# Altium footprint library PCB_Altium_Library_Manuel.PcbLib: 63 footprints (part 2 of 4)
Each footprint in its own frame and in the unit in brackets; x right, y up, seen from the top. Pads: shape width x height; smd on the part's side, far side on the other; paste and mask are expansions set on the pad; w line width, h text height; cw(c..) or ccw(c..) is an arc to the next point about the centre after c.
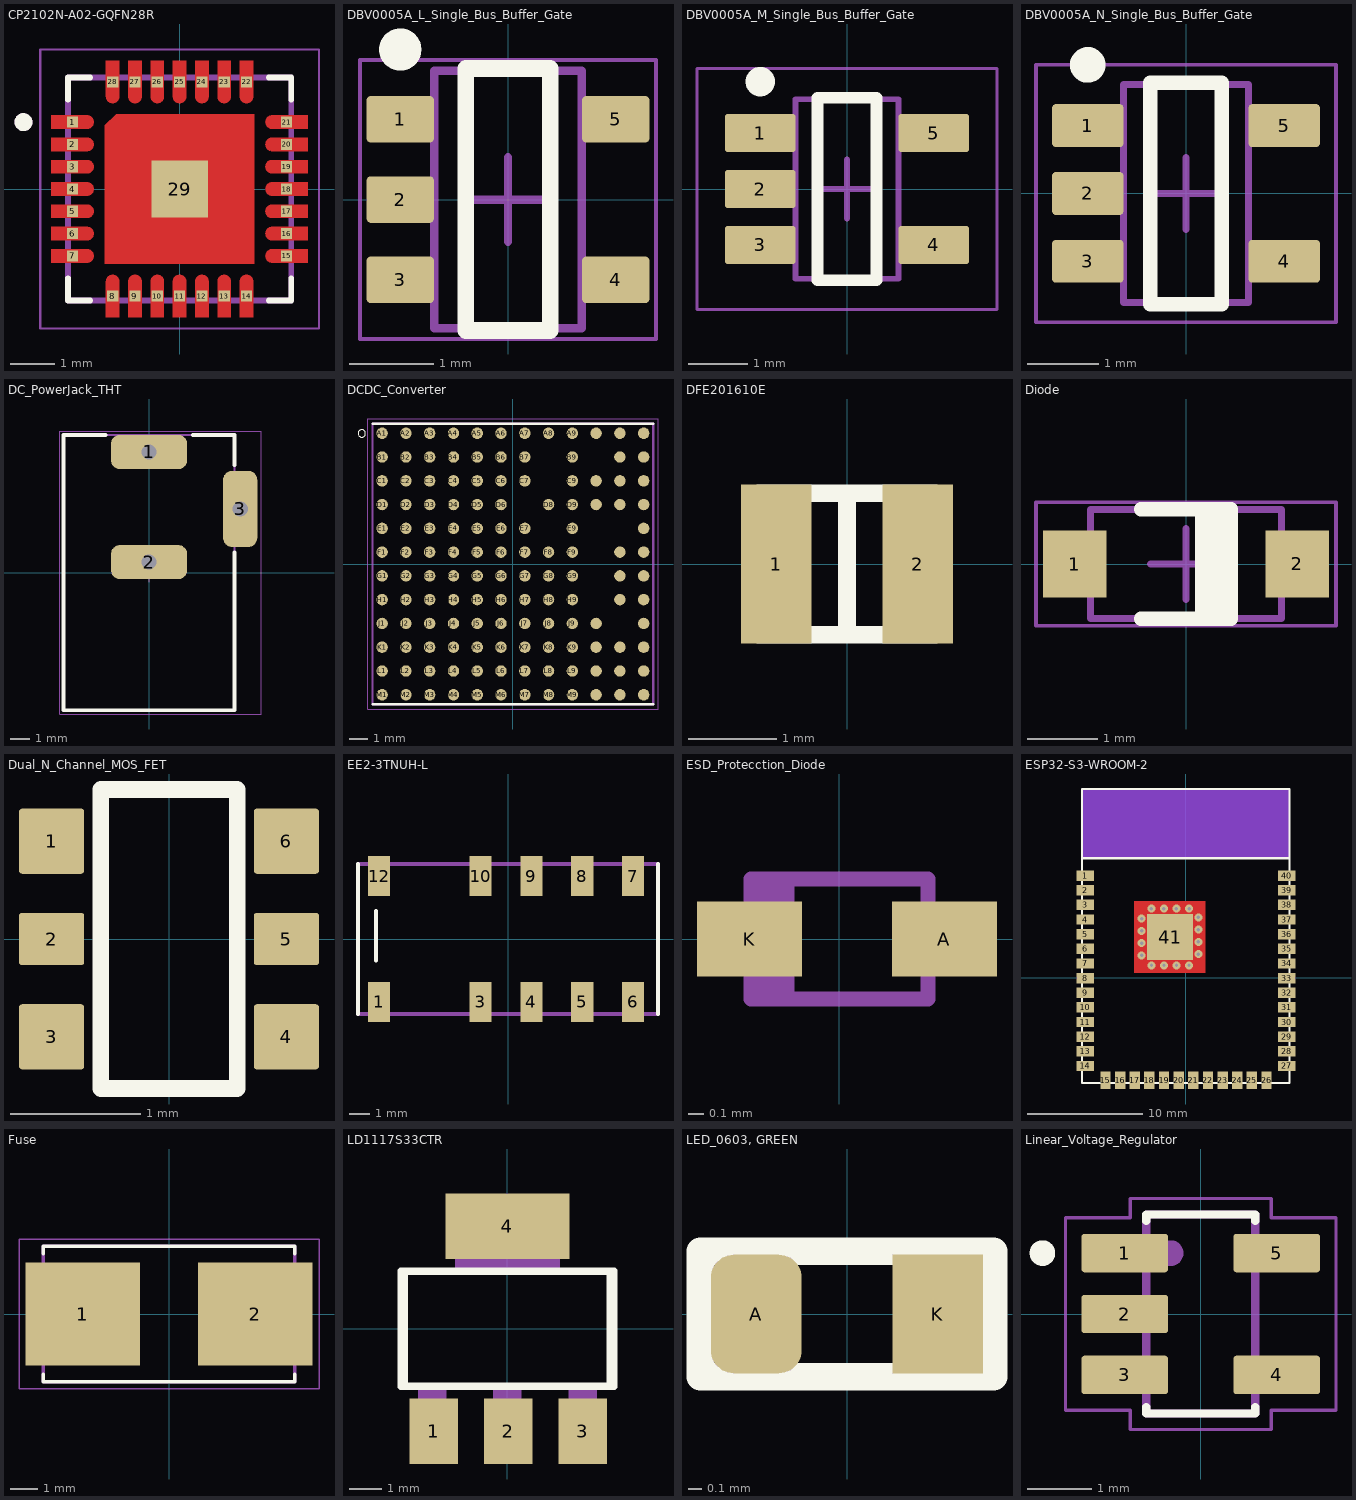
[diagram p1: the footprints below, top view; thin cyan lines are the x and y axes]

## CP2102N-A02-GQFN28R [mm] "USB to UART bridge."
pads (29):
  rect 0.25x0.25 smd paste-1 mask+0: 1(-2.4,1.5) 2(-2.4,1) 3(-2.4,0.5) 4(-2.4,0) 5(-2.4,-0.5) 6(-2.4,-1) 7(-2.4,-1.5) 8(-1.5,-2.4) 9(-1,-2.4) 10(-0.5,-2.4) 11(0,-2.4) 12(0.5,-2.4) 13(1,-2.4) 14(1.5,-2.4) 15(2.4,-1.5) 16(2.4,-1) 17(2.4,-0.5) 18(2.4,0) 19(2.4,0.5) 20(2.4,1) 21(2.4,1.5) 22(1.5,2.4) 23(1,2.4) 24(0.5,2.4) 25(0,2.4) 26(-0.5,2.4) 27(-1,2.4) 28(-1.5,2.4)
  rect 1.27x1.27 smd paste+0.424 mask+0: 29(0,0)
Top Layer:
  drawing of 29 lines, arcs and shapes, not listed
Top Overlay:
  circle w0.2: c-3.5,1.5 r0.1
  lines w0.127: -2.5,-2 -2.5,-2.5 -2,-2.5 ; -2.5,2 -2.5,2.5 -2,2.5 ; 2,-2.5 2.5,-2.5 2.5,-2 ; 2,2.5 2.5,2.5 2.5,2
Top Paste:
  drawing of 28 lines, arcs and shapes, not listed
Top Solder:
  drawing of 29 lines, arcs and shapes, not listed
Mechanical 13:
  circle w0.2: c-3.5,1.5 r0.1
  lines w0.127: -2.5,-2.5 -2.5,2.5 2.5,2.5 2.5,-2.5 -2.5,-2.5
Mechanical 15:
  lines w0.05: -3.125,-3.125 -3.125,3.125 3.125,3.125 3.125,-3.125 -3.125,-3.125
3D body "step_temp.STEP": height 0.8, standoff 0, extent -2.5,-2.5 2.5,2.5
3D body "CP2102N-A02-GQFN28R--3DModel-STEP-510211.STEP": height 0.8, standoff 0, extent -2.5,-2.5 2.5,2.5

## DBV0005A_L_Single_Bus_Buffer_Gate [mm] "SOT23, 5-Leads, Body 3.05x1.75mm, Pitch 0.95mm, IPC High Density."
pads (5):
  rrect18% 0.8x0.55 smd: 1(-1.275,0.95) 2(-1.275,0) 3(-1.275,-0.95) 4(1.275,-0.95) 5(1.275,0.95)
Top Overlay:
  circle w0.25: c-1.275,1.775 r0.125
  lines w0.2: -0.5,-1.55 0.5,-1.55 0.5,1.55 -0.5,1.55 -0.5,-1.55
Mechanical 1:
  text ".Designator" at -0.635,-0.254 h0.4
Mechanical 13:
  lines w0.1: -0.875,-1.525 -0.875,1.525 0.875,1.525 0.875,-1.525 -0.875,-1.525
Mechanical 15:
  lines w0.05: -1.75,-1.65 -1.75,1.65 1.75,1.65 1.75,-1.65 -1.75,-1.65
  lines w0.1: -0.5,0 0.5,0 ; 0,-0.5 0,0.5
3D body "DBV0005AaksMF05A.stp": height 1.08, standoff -0.01, extent -1.422,-1.461 1.422,1.46

## DBV0005A_M_Single_Bus_Buffer_Gate [mm] "SOT23, 5-Leads, Body 3.05x1.75mm, Pitch 0.95mm, IPC Low Density."
pads (5):
  rrect15% 1.2x0.65 smd: 1(-1.475,0.95) 2(-1.475,0) 3(-1.475,-0.95) 4(1.475,-0.95) 5(1.475,0.95)
Top Overlay:
  circle w0.25: c-1.475,1.825 r0.125
  lines w0.2: -0.5,-1.55 -0.5,1.55 0.5,1.55 0.5,-1.55 -0.5,-1.55
Mechanical 1:
  text ".Designator" at -0.635,-0.127 h0.4
Mechanical 13:
  lines w0.1: -0.875,-1.525 0.875,-1.525 0.875,1.525 -0.875,1.525 -0.875,-1.525
Mechanical 15:
  lines w0.05: -2.55,-2.05 2.55,-2.05 2.55,2.05 -2.55,2.05 -2.55,-2.05
  lines w0.1: -0.5,0 0.5,0 ; 0,-0.5 0,0.5
3D body "DBV0005AaksMF05A.stp": height 1.08, standoff -0.01, extent -1.422,-1.461 1.422,1.46

## DBV0005A_N_Single_Bus_Buffer_Gate [mm] "SOT23, 5-Leads, Body 3.05x1.75mm, Pitch 0.95mm, IPC Medium Density."
pads (5):
  rrect17% 1x0.6 smd: 1(-1.375,0.95) 2(-1.375,0) 3(-1.375,-0.95) 4(1.375,-0.95) 5(1.375,0.95)
Top Overlay:
  circle w0.25: c-1.375,1.8 r0.125
  lines w0.2: -0.5,-1.55 -0.5,1.55 0.5,1.55 0.5,-1.55 -0.5,-1.55
Mechanical 1:
  text ".Designator" at -0.635,-0.254 h0.4
Mechanical 13:
  lines w0.1: -0.875,-1.525 0.875,-1.525 0.875,1.525 -0.875,1.525 -0.875,-1.525
Mechanical 15:
  lines w0.05: -2.1,-1.8 2.1,-1.8 2.1,1.8 -2.1,1.8 -2.1,-1.8
  lines w0.1: -0.5,0 0.5,0 ; 0,-0.5 0,0.5
3D body "DBV0005AaksMF05A.stp": height 1.08, standoff -0.01, extent -1.422,-1.461 1.422,1.46

## DC_PowerJack_THT [mm] "694106301002, DCPowerJack_THT_R/A_Plastic_CenterPin_ Ã˜2.0."
pads (3):
  rrect50% 4x1.8 hole 0.8 square: 1(0,6.35) 2(0,0.55)
  rrect50% 1.8x4 hole 0.8 square: 3(4.8,3.35)
Top Overlay:
  lines w0.2: -2.3,7.25 -4.5,7.25 -4.5,-7.25 4.5,-7.25 4.5,1.05 ; 2.3,7.25 4.5,7.25 4.5,5.65
Top 3D Body:
  lines w0.1: -4.5,-7.25 4.5,-7.25 4.5,7.25 -4.5,7.25 -4.5,-7.25
Top Component Outline:
  lines w0.1: -4.5,-7.25 -4.5,7.25 4.5,7.25 4.5,-7.25 -4.5,-7.25
  text ".Designator" at -7.498,-0.5 h1.5
Top Designator:
  lines w0.05: -0.5,0 0.5,0 ; 0,-0.5 0,0.5 ; -4.7,-7.45 -4.7,7.45 5.9,7.45 5.9,-7.45 -4.7,-7.45
3D body "694106301002.stp": height 10.75, standoff -3.75, extent -4.5,-7.25 5,7.25

## DCDC_Converter [mm] "LTM4627EY#PBF, BGA133C127P12X12_1500X1500X512N, Module DC-DC 1-OUT 0.6V to 5V 15A Automotive 133-Pin BGA Tray."
pads (133):
  round 0.61 smd: A1(-6.985,6.985) A2(-5.715,6.985) A3(-4.445,6.985) A4(-3.175,6.985) A5(-1.905,6.985) A6(-0.635,6.985) A7(0.635,6.985) A8(1.905,6.985) A9(3.175,6.985) A10(4.445,6.985) A11(5.715,6.985) A12(6.985,6.985) B1(-6.985,5.715) B2(-5.715,5.715) B3(-4.445,5.715) B4(-3.175,5.715) B5(-1.905,5.715) B6(-0.635,5.715) B7(0.635,5.715) B9(3.175,5.715) B11(5.715,5.715) B12(6.985,5.715) C1(-6.985,4.445) C2(-5.715,4.445) C3(-4.445,4.445) C4(-3.175,4.445) C5(-1.905,4.445) C6(-0.635,4.445) C7(0.635,4.445) C9(3.175,4.445) C10(4.445,4.445) C11(5.715,4.445) C12(6.985,4.445) D1(-6.985,3.175) D2(-5.715,3.175) D3(-4.445,3.175) D4(-3.175,3.175) D5(-1.905,3.175) D6(-0.635,3.175) D8(1.905,3.175) D9(3.175,3.175) D10(4.445,3.175) D11(5.715,3.175) D12(6.985,3.175) E1(-6.985,1.905) E2(-5.715,1.905) E3(-4.445,1.905) E4(-3.175,1.905) E5(-1.905,1.905) E6(-0.635,1.905) E7(0.635,1.905) E9(3.175,1.905) E12(6.985,1.905) F1(-6.985,0.635) F2(-5.715,0.635) F3(-4.445,0.635) F4(-3.175,0.635) F5(-1.905,0.635) F6(-0.635,0.635) F7(0.635,0.635) F8(1.905,0.635) F9(3.175,0.635) F11(5.715,0.635) F12(6.985,0.635) G1(-6.985,-0.635) G2(-5.715,-0.635) G3(-4.445,-0.635) G4(-3.175,-0.635) G5(-1.905,-0.635) G6(-0.635,-0.635) G7(0.635,-0.635) G8(1.905,-0.635) G9(3.175,-0.635) G11(5.715,-0.635) G12(6.985,-0.635) H1(-6.985,-1.905) H2(-5.715,-1.905) H3(-4.445,-1.905) H4(-3.175,-1.905) H5(-1.905,-1.905) H6(-0.635,-1.905) H7(0.635,-1.905) H8(1.905,-1.905) H9(3.175,-1.905) H11(5.715,-1.905) H12(6.985,-1.905) J1(-6.985,-3.175) J2(-5.715,-3.175) J3(-4.445,-3.175) J4(-3.175,-3.175) J5(-1.905,-3.175) J6(-0.635,-3.175) J7(0.635,-3.175) J8(1.905,-3.175) J9(3.175,-3.175) J10(4.445,-3.175) J12(6.985,-3.175) K1(-6.985,-4.445) K2(-5.715,-4.445) K3(-4.445,-4.445) K4(-3.175,-4.445) K5(-1.905,-4.445) K6(-0.635,-4.445) K7(0.635,-4.445) K8(1.905,-4.445) K9(3.175,-4.445) K10(4.445,-4.445) K11(5.715,-4.445) K12(6.985,-4.445) L1(-6.985,-5.715) L2(-5.715,-5.715) L3(-4.445,-5.715) L4(-3.175,-5.715) L5(-1.905,-5.715) L6(-0.635,-5.715) L7(0.635,-5.715) L8(1.905,-5.715) L9(3.175,-5.715) L10(4.445,-5.715) L11(5.715,-5.715) L12(6.985,-5.715) M1(-6.985,-6.985) M2(-5.715,-6.985) M3(-4.445,-6.985) M4(-3.175,-6.985) M5(-1.905,-6.985) M6(-0.635,-6.985) M7(0.635,-6.985) M8(1.905,-6.985) M9(3.175,-6.985) M10(4.445,-6.985) M11(5.715,-6.985) M12(6.985,-6.985)
Top Overlay:
  circle w0: c-8.075,6.975 r0.2
  lines w0.127: -7.5,-7.5 7.5,-7.5 ; -7.5,7.5 7.5,7.5
Mechanical 13:
  lines w0.127: -7.5,-7.5 -7.5,7.5 7.5,7.5 7.5,-7.5 -7.5,-7.5
Mechanical 15:
  lines w0.05: -7.75,-7.75 -7.75,7.75 7.75,7.75 7.75,-7.75 -7.75,-7.75
3D body "LTM4627EY#PBF.STEP": height 5.12, standoff 0, extent -7.5,-7.5 7.5,7.5

## DFE201610E [mm] "DFE201610E-1R0M=P2 Series Inductor 1.0uH +/-20% 0806"
pads (2):
  rect 0.8x1.8 smd: 1(-0.8,0) 2(0.8,0)
Top Overlay:
  lines w0.2: 0,-0.8 0,0.8 ; -1,-0.8 1,-0.8 1,0.8 -1,0.8 -1,-0.8
3D body "DFE201610E-1R0M=P2.stp": height 1, standoff 0, extent -1,-0.8 1,0.8

## Diode [mm] "1N4148W-7-F, Fast Switching Diode, 100 V, 0.15 A, -65 to 150 degC, 2-Pin?SOD123, RoHS, Tape and Reel."
pads (2):
  rect 0.9x0.95 smd: 1(-1.575,0) 2(1.575,0)
Top Overlay:
  rectangle: 0.127,-0.825 0.635,0.762
  lines w0.2: -0.635,-0.775 0.635,-0.775 0.635,0.775 -0.635,0.775
Mechanical 13:
  lines w0.1: -1.35,-0.775 1.35,-0.775 1.35,0.775 -1.35,0.775 -1.35,-0.775
Mechanical 15:
  lines w0.05: -2.125,-0.875 2.125,-0.875 2.125,0.875 -2.125,0.875 -2.125,-0.875
  lines w0.1: -0.5,0 0.5,0 ; 0,-0.5 0,0.5
3D body: height 1.45, standoff 0, extent -1.35,-0.775 1.35,0.775

## Dual_N_Channel_MOS_FET [mm] "BSS138PS, Mosfet Array 60V 300mA (Ta) 350mW (Ta) Surface Mount SOT-23-6."
pads (6):
  rrect10% 0.5x0.5 smd: 1(-0.9,0.75) 3(-0.9,-0.75) 4(0.9,-0.75) 6(0.9,0.75)
  rrect10% 0.5x0.4 smd: 2(-0.9,0) 5(0.9,0)
Top Overlay:
  lines w0.127: -0.523,-1.146 -0.523,1.146 0.523,1.146 0.523,-1.146 -0.523,-1.146
3D body "BSS138PS.STEP": height 1.1, standoff 0, extent -1.05,-1 1.05,1

## EE2-3TNUH-L [mm] "Low Signal Latching Relay 3.0 V SMD, 2 Coils"
pads (10):
  rect 1.11x2 smd: 1(-6.45,-3.145) 3(-1.37,-3.145) 4(1.17,-3.145) 5(3.71,-3.145) 6(6.25,-3.145) 7(6.25,3.145) 8(3.71,3.145) 9(1.17,3.145) 10(-1.37,3.145) 12(-6.45,3.145)
Top Overlay:
  lines w0.2: -7.5,-3.75 -7.5,3.75 ; -6.611,-1.083 -6.604,1.397 ; 7.5,-3.75 7.5,3.75
Mechanical 13:
  lines w0.2: -7.5,-3.75 7.5,-3.75 7.5,3.75 -7.5,3.75 -7.5,-3.75
3D body "EE2-3TNUH-L--3DModel-STEP-56544.STEP": height 10, standoff 0, extent -7.5,-3.75 7.5,3.75

## ESD_Protecction_Diode [mm] "ESD5B5.0ST1G"
pads (2):
  rect 0.7x0.5 smd: A(0.7,0) K(-0.6,0)
Mechanical 13:
  region: -0.3,-0.4 -0.59,-0.4 -0.59,0.4 -0.3,0.4
  region: 0.75,-0.17 0.54,-0.17 0.54,0.17 0.75,0.17
  region: -0.54,-0.17 -0.75,-0.17 -0.75,0.17 -0.54,0.17
  lines w0.1: -0.59,-0.4 -0.59,0.4 0.59,0.4 0.59,-0.4 -0.59,-0.4
3D body "step_temp.STEP": height 0.7, standoff 0, extent -0.8,-0.4 0.8,0.4

## ESP32-S3-WROOM-2 [mm] "ESP32-S3-WROOM-2-N32R16V"
pads (41):
  rect 1.5x0.9 smd: 1(-8.75,8.88) 2(-8.75,7.61) 3(-8.75,6.34) 4(-8.75,5.07) 5(-8.75,3.8) 6(-8.75,2.53) 7(-8.75,1.26) 8(-8.75,-0.01) 9(-8.75,-1.28) 10(-8.75,-2.55) 11(-8.75,-3.82) 12(-8.75,-5.09) 13(-8.75,-6.36) 14(-8.75,-7.63) 27(8.75,-7.63) 28(8.75,-6.36) 29(8.75,-5.09) 30(8.75,-3.82) 31(8.75,-2.55) 32(8.75,-1.28) 33(8.75,-0.01) 34(8.75,1.26) 35(8.75,2.53) 36(8.75,3.8) 37(8.75,5.07) 38(8.75,6.34) 39(8.75,7.61) 40(8.75,8.88)
  rect 0.9x1.5 smd: 15(-6.985,-8.88) 16(-5.715,-8.88) 17(-4.445,-8.88) 18(-3.175,-8.88) 19(-1.905,-8.88) 20(-0.635,-8.88) 21(0.635,-8.88) 22(1.905,-8.88) 23(3.175,-8.88) 24(4.445,-8.88) 25(5.715,-8.88) 26(6.985,-8.88)
  rect 4x4 smd paste-2539.97: 41(-1.383,3.55)
via -3.007,6.015 diameter 0.7 hole 0.3
via 1.077,5.252 diameter 0.7 hole 0.3
via 1.077,4.19 diameter 0.7 hole 0.3
via 1.077,3.128 diameter 0.7 hole 0.3
via 1.077,2.066 diameter 0.7 hole 0.3
via 0.261,1.09 diameter 0.7 hole 0.3
via -0.823,1.09 diameter 0.7 hole 0.3
via -1.907,1.09 diameter 0.7 hole 0.3
via -2.991,1.09 diameter 0.7 hole 0.3
via -3.848,1.965 diameter 0.7 hole 0.3
via -3.848,3.027 diameter 0.7 hole 0.3
via -3.848,4.089 diameter 0.7 hole 0.3
via -3.848,5.151 diameter 0.7 hole 0.3
via -1.923,6.015 diameter 0.7 hole 0.3
via 0.277,6.015 diameter 0.7 hole 0.3
via -0.839,6.015 diameter 0.7 hole 0.3
Top Layer:
  region: -4.477,6.639 1.68,6.639 1.68,0.46 -4.477,0.46
Top Layer keep-out:
  rectangle: -9.023,10.39 8.977,16.39
Bottom Layer keep-out:
  rectangle: -9.023,10.39 8.977,16.39
Top Overlay:
  lines w0.2: 8.977,10.39 -9.023,10.39 ; -9.023,10.39 -9.023,16.39 8.977,16.39 8.977,-9.11 -9.023,-9.11 -9.023,10.39
Top Paste:
  rectangle: -0.498,3.09 0.502,4.09
  rectangle: -0.498,1.665 0.502,2.665
  rectangle: -1.886,1.665 -0.885,2.665
  rectangle: -3.273,1.665 -2.273,2.665
  rectangle: -3.273,3.09 -2.273,4.09
  rectangle: -1.885,3.09 -0.885,4.09
  rectangle: -0.498,4.44 0.502,5.44
  rectangle: -1.87,4.44 -0.87,5.44
  rectangle: -3.257,4.44 -2.257,5.44
3D body "ESP32-S3-WROOM-2-N32R16V.stp": height 3.25, standoff 0, extent -9,-9.13 9,16.37

## Fuse [mil] "0154010.DR, FUSE BRD MNT 10A 125VAC/VDC SMD"
pads (2):
  rect 167x150 smd: 1(-125.5,0) 2(125.5,0)
Top Overlay:
  lines w5: -183.66,-87.99 -183.66,-99.02 183.66,-99.02 183.66,-87.99 ; -183.66,87.99 -183.66,99.02 183.66,99.02 183.66,87.99
Mechanical 13:
  lines w5: -183.66,-99.02 -183.66,99.02 183.66,99.02 183.66,-99.02 -183.66,-99.02
Mechanical 15:
  lines w1.97: -218.84,-108.86 218.84,-108.86 218.84,108.86 -218.84,108.86 -218.84,-108.86
3D body "step_temp.STEP": height 150, standoff 0, extent -191.54,-99.02 191.54,99.02

## LD1117S33CTR [mil] "LDO, 3.3V and 800mA."
pads (4):
  rect 59x79 smd: 1(-89,-124) 2(1,-124) 3(91,-124)
  rect 150x79 smd: 4(0,124)
Top Overlay:
  lines w6: -122.99,-68.07 122.99,-68.07 122.99,68.15 -122.99,68.15 -122.99,-68.07
  lines w8: -129,-70 -129,70 129,70 129,-70 -129,-70
Mechanical 13:
  region: 108,-144 74,-144 74,-71 108,-71
  region: -74,-144 -108,-144 -108,-71 -74,-71
  region: 17,-144 -17,-144 -17,-71 17,-71
  region: 63,71 -63,71 -63,144 63,144
  region: 108,-144 74,-144 74,-71 108,-71
  region: -74,-144 -108,-144 -108,-71 -74,-71
  region: 17,-144 -17,-144 -17,-71 17,-71
  region: 63,71 -63,71 -63,144 63,144
  region: 15,-130 -15,-130 -15,-70 15,-70
  region: 105,-130 75,-130 75,-70 105,-70
  region: -75,-130 -105,-130 -105,-70 -75,-70
  region: 60,70 -60,70 -60,130 60,130
3D body "step_temp.STEP": height 70.87, standoff 0, extent -127.95,-137.75 127.95,137.75

## LED_0603, GREEN [mm] "LED 0603, Green, 3.2 V, 20 mA, 430 mcd"
pads (2):
  rrect50% 0.65x0.85 smd: A(-0.65,0)
  rect 0.65x0.85 smd: K(0.65,0)
Top Overlay:
  region: 0.7,0.45 0.4,0.45 0.7,0.15
  region: 0.7,-0.45 0.7,-0.15 0.4,-0.45
  lines w0.2: -1.05,-0.45 1.05,-0.45 1.05,0.45 -1.05,0.45 -1.05,-0.45
3D body: height 1.1, standoff 0, extent -0.85,-0.45 0.85,0.45

## Linear_Voltage_Regulator [mm] "AP2112K-3.3TRG1, Linear Voltage Regulator IC Positive Fixed 1 Output 600mA SOT-25."
pads (5):
  rrect15% 1.35x0.6 smd: 1(-1.185,0.95) 2(-1.185,0) 3(-1.185,-0.95) 4(1.185,-0.95) 5(1.185,0.95)
Top Overlay:
  circle w0.2: c-2.469,0.95 r0.1
  lines w0.127: -0.85,-1.45 -0.85,-1.55 0.85,-1.55 0.85,-1.45 ; -0.85,1.45 -0.85,1.55 0.85,1.55 0.85,1.45
Mechanical 13:
  circle w0.2: c-0.469,0.95 r0.1
  lines w0.127: -0.85,-1.55 0.85,-1.55 0.85,1.55 -0.85,1.55 -0.85,-1.55
Mechanical 15:
  lines w0.05: -2.11,-1.5 -2.11,1.5 -1.1,1.5 -1.1,1.8 1.1,1.8 1.1,1.5 2.11,1.5 2.11,-1.5 1.1,-1.5 1.1,-1.8 -1.1,-1.8 -1.1,-1.5 -2.11,-1.5
3D body "step_temp.STEP": height 1.4, standoff 0, extent -1.4,-1.5 1.4,1.5